# Altium integrated library Analog Devices Clock Generation and Distribution.IntLib: 120 symbols (part 18 of 18)
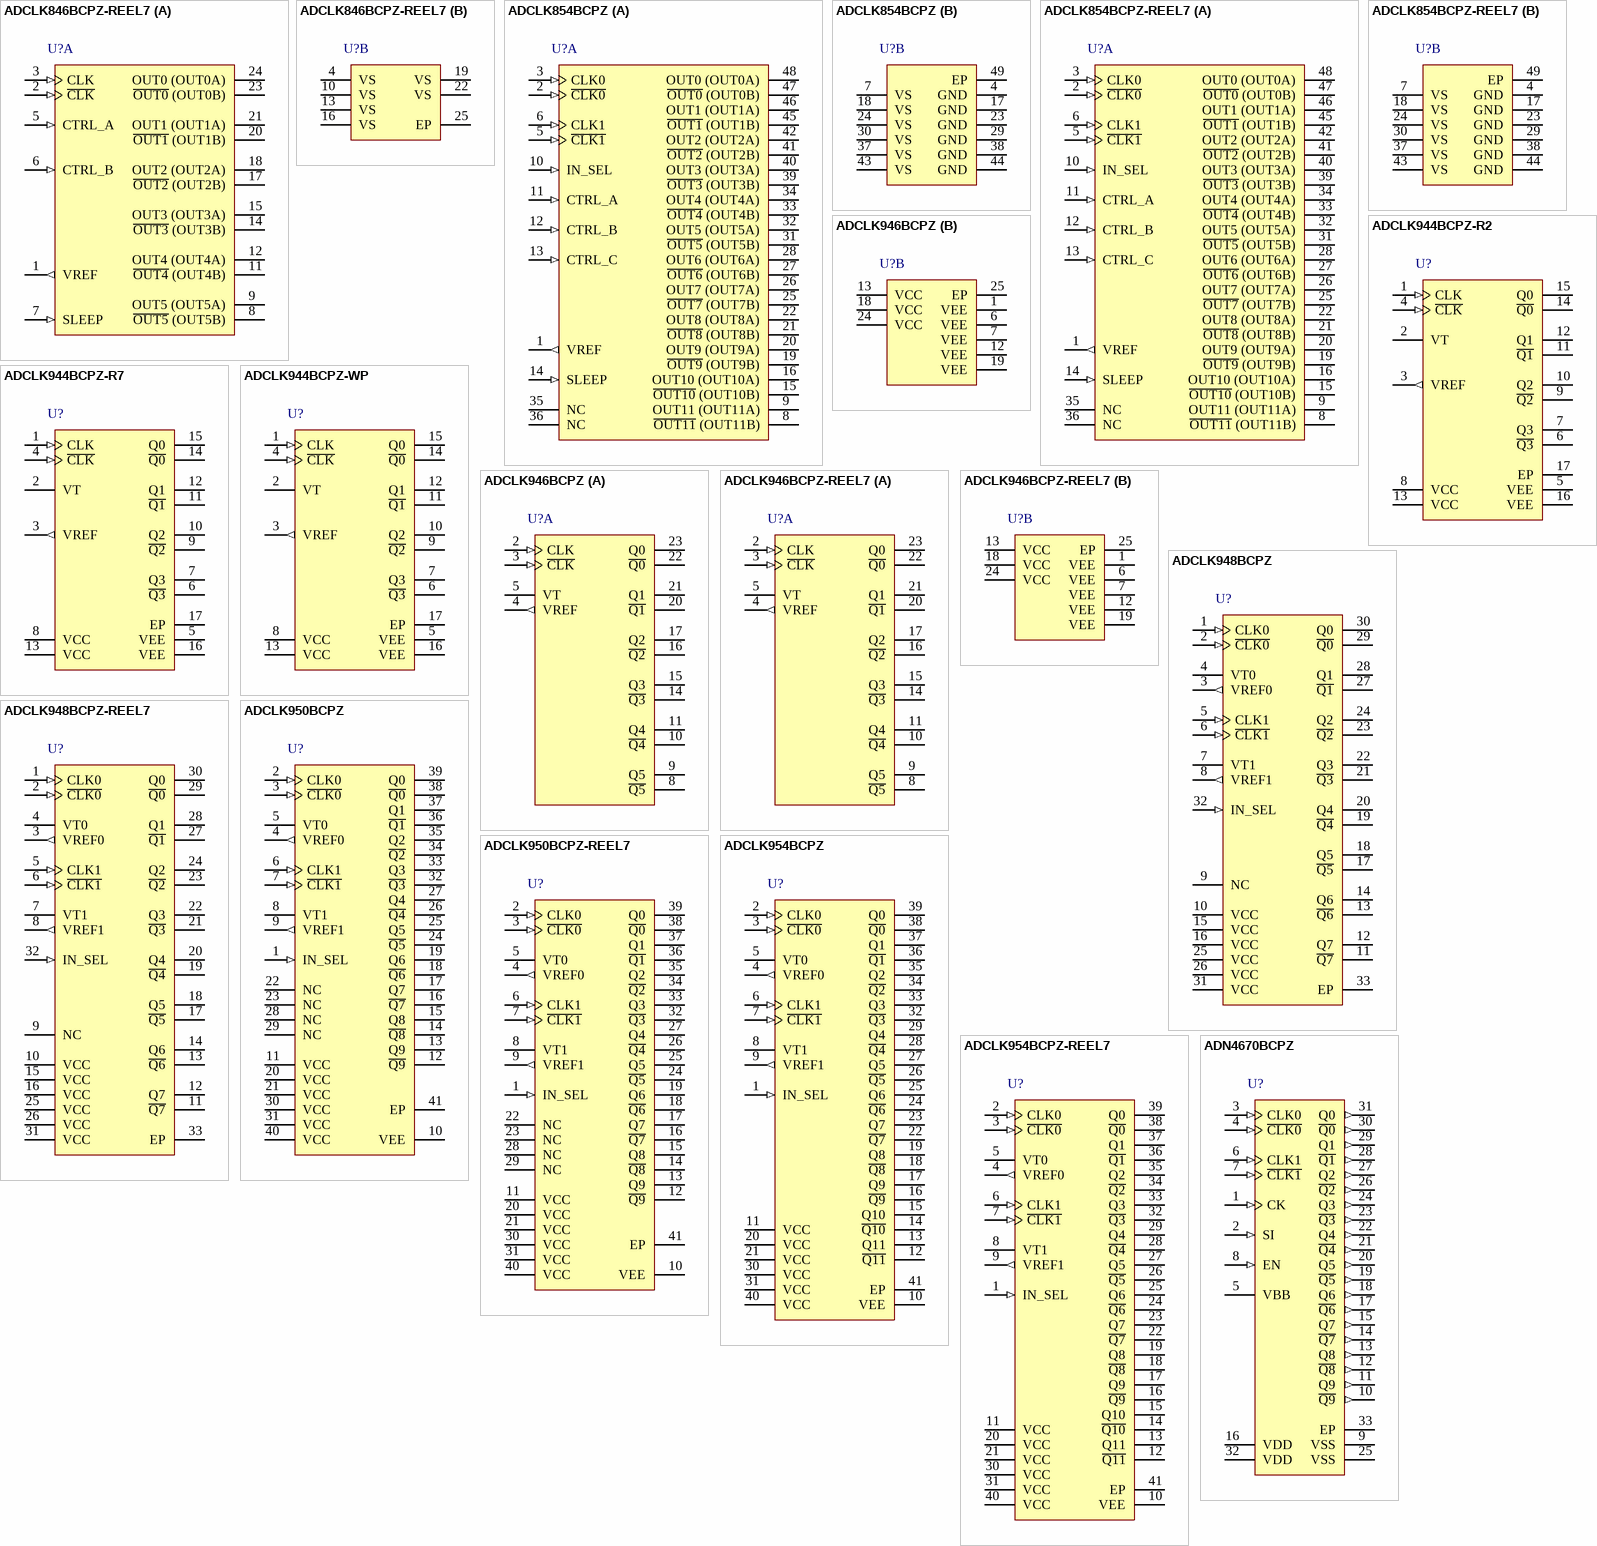
[diagram p29: symbols ADCLK846BCPZ-REEL7 to ADN4670BCPZ]

## ADCLK948BCPZ-REEL7
designator U?
2 Selectable Inputs, 8 LVPECL Outputs SiGe Clock Fanout Buffer, 3.3 V Supply, Industrial, 32-pin QFN (CP-32-8), Reel; Manufacturer: Analog Devices; PartNumber: ADCLK948BCPZ-REEL7; # of Inputs: 2; # of Outputs: 8; Supply Voltage (V): 3.3; I/O Interface: Pin Select; Max f-out: 4.8 GHz; DatasheetVersion: Rev. A; PackageVersion: 080306-A, 08/2006; PackageReference: CP-32-8; PackageDescription: 32-Pin Lead Frame Chip Scale Package, Body 5 x 5 mm, Pitch 0.5 mm; Supplier 1: Digi-Key; Supplier Part Number 1: ADCLK948BCPZ-REEL7-ND; Supplier 2: Newark; Supplier Part Number 2: 26R2412; Supplier 3: Mouser; Supplier Part Number 3: 584-ADCLK948BCPZR7; Output Logic: LVPECL; Packing: Reel; Mounting Technology: Surface Mount; Code_JEDEC: MO-220-VHHD-2; ComponentLink1Description: Manufacturer URL; ComponentLink1URL: http://www.analog.com/en/index.html; ComponentLink2Description: Datasheet; ComponentLink2URL: http://www.analog.com/static/imported-files/data_sheets/ADCLK948.pdf; ComponentLink3Description: Package Specification; ComponentLink3URL: http://www.analog.com/static/imported-files/packages/3743763361381667927CP_32_8.pdf; ComponentLink4Description: Product URL; ComponentLink4URL: http://www.analog.com/en/clock-and-timing/clock-generation-and-distribution/adclk948/products/product.html; ComponentLink5Description: Reference Circuit; ComponentLink5URL: http://www.analog.com/en/clock-and-timing/clock-generation-and-distribution/adclk948/products/product.html#product-recommendations
footprint ADI-CP-32-8_N (QFN, 32-Leads, Body 5x5mm, Pitch 0.5mm, Thermal Pad 2.7x2.7mm, IPC Medium Density)
footprint ADI-CP-32-8_L (QFN, 32-Leads, Body 5x5mm, Pitch 0.5mm, Thermal Pad 2.7x2.7mm, IPC High Density)
footprint ADI-CP-32-8_M (QFN, 32-Leads, Body 5x5mm, Pitch 0.5mm, Thermal Pad 2.7x2.7mm, IPC Low Density)
pins: 1 CLK0 (in) "Differential Input (Positive) 0.", 2 ~{CLK0} (in) "Differential Input (Negative) 0.", 3 VREF0 (out) "Reference Voltage. Reference voltage for biasing ac-coupled CLK0 and C\L\K\0\ inputs.", 4 VT0 "Center Tap. Center tap of a 100  ohm input resistor for CLK0 and C\L\K\0\ inputs.", 5 CLK1 (in) "Differential Input (Positive) 1.", 6 ~{CLK1} (in) "Differential Input (Negative) 1.", 7 VT1 "Center Tap. Center tap of a 100  ohm input resistor for CLK1 and C\L\K\1\ inputs.", 8 VREF1 (out) "Reference Voltage. Reference voltage for biasing ac-coupled CLK1 and C\L\K\1\ inputs.", 9 NC "No Connection.", 10 VCC (power) "Positive Supply Pin.", 11 ~{Q7} (oe) "Differential LVPECL Outputs.", 12 Q7 (oe) "Differential LVPECL Outputs.", 13 ~{Q6} (oe) "Differential LVPECL Outputs.", 14 Q6 (oe) "Differential LVPECL Outputs.", 15 VCC (power) "Positive Supply Pin.", 16 VCC (power) "Positive Supply Pin.", 17 ~{Q5} (oe) "Differential LVPECL Outputs.", 18 Q5 (oe) "Differential LVPECL Outputs.", 19 ~{Q4} (oe) "Differential LVPECL Outputs.", 20 Q4 (oe) "Differential LVPECL Outputs.", 21 ~{Q3} (oe) "Differential LVPECL Outputs.", 22 Q3 (oe) "Differential LVPECL Outputs.", 23 ~{Q2} (oe) "Differential LVPECL Outputs.", 24 Q2 (oe) "Differential LVPECL Outputs.", 25 VCC (power) "Positive Supply Pin.", 26 VCC (power) "Positive Supply Pin.", 27 ~{Q1} (oe) "Differential LVPECL Outputs.", 28 Q1 (oe) "Differential LVPECL Outputs.", 29 ~{Q0} (oe) "Differential LVPECL Outputs.", 30 Q0 (oe) "Differential LVPECL Outputs.", 31 VCC (power) "Positive Supply Pin.", 32 IN_SEL (in) "Input Select. Logic 0 selects CLK0 and C\L\K\0\ inputs. Logic 1 selects CLK1 and C\L\K\1\ inputs.", 33 EP (power) "The exposed pad (EPAD) must be connected to VEE."

## ADCLK950BCPZ
designator U?
2 Selectable Inputs, 10 LVPECL Outputs, SiGe Clock Fanout Buffer, 3.3 V Supply, Industrial, 40-pin QFN (CP-40-8), Tray; Manufacturer: Analog Devices; PartNumber: ADCLK950BCPZ; # of Inputs: 2; # of Outputs: 10; Supply Voltage (V): 3.3; I/O Interface: Pin Select; Max f-out: 4.8 GHz; DatasheetVersion: Rev. A; PackageVersion: 082708-A, 08/2008; PackageReference: CP-40-8; PackageDescription: 40-Pin Lead Frame Chip Scale Package, Body 6 x 6 mm, Pitch 0.5 mm; Supplier 1: Digi-Key; Supplier Part Number 1: ADCLK950BCPZ-ND; Supplier 2: Farnell; Supplier Part Number 2: 1771945; Supplier 3: Newark; Supplier Part Number 3: 26R2414; Supplier 4: Mouser; Supplier Part Number 4: 584-ADCLK950BCPZ; Output Logic: LVPECL; Packing: Tray; Mounting Technology: Surface Mount; Code_JEDEC: MO-220-VJJD-2; ComponentLink1Description: Manufacturer URL; ComponentLink1URL: http://www.analog.com/en/index.html; ComponentLink2Description: Datasheet; ComponentLink2URL: http://www.analog.com/static/imported-files/data_sheets/ADCLK950.pdf; ComponentLink3Description: Package Specification; ComponentLink3URL: http:/www.analog.com/static/imported-files/packages/PKG_PDF/LFCSP(CP)/CP_40_8.pdf; ComponentLink4Description: Product URL; ComponentLink4URL: http://www.analog.com/en/clock-and-timing/clock-generation-and-distribution/adclk950/products/product.html
footprint ADI-CP-40-8_N (QFN, 40-Leads, Body 6x6mm, Pitch 0.5mm, Thermal Pad 2.9x2.9mm, IPC Medium Density)
footprint ADI-CP-40-8_L (QFN, 40-Leads, Body 6x6mm, Pitch 0.5mm, Thermal Pad 2.9x2.9mm, IPC High Density)
footprint ADI-CP-40-8_M (QFN, 40-Leads, Body 6x6mm, Pitch 0.5mm, Thermal Pad 2.9x2.9mm, IPC Low Density)
pins: 1 IN_SEL (in) "Input Select. Logic 0 selects CLK0 and C\L\K\0\ inputs. Logic 1 selects CLK1 and C\L\K\1\ inputs.", 2 CLK0 (in) "Differential Input (Positive) 0.", 3 ~{CLK0} (in) "Differential Input (Negative) 0.", 4 VREF0 (out) "Reference Voltage. Reference voltage for biasing ac-coupled CLK0 and C\L\K\0\ inputs.", 5 VT0 "Center Tap. Center tap of a 100  ohm input resistor for CLK0 and C\L\K\0\ inputs.", 6 CLK1 (in) "Differential Input (Positive) 1.", 7 ~{CLK1} (in) "Differential Input (Negative) 1.", 8 VT1 "Center Tap. Center tap of a 100  ohm input resistor for CLK1 and C\L\K\1\ inputs.", 9 VREF1 (out) "Reference Voltage. Reference voltage for biasing ac-coupled CLK1 and C\L\K\1\ inputs.", 10 VEE (power) "Negative Supply Pin.", 11 VCC (power) "Positive Supply Pin.", 12 ~{Q9} (oe) "Differential LVPECL Outputs.", 13 Q9 (oe) "Differential LVPECL Outputs.", 14 ~{Q8} (oe) "Differential LVPECL Outputs.", 15 Q8 (oe) "Differential LVPECL Outputs.", 16 ~{Q7} (oe) "Differential LVPECL Outputs.", 17 Q7 (oe) "Differential LVPECL Outputs.", 18 ~{Q6} (oe) "Differential LVPECL Outputs.", 19 Q6 (oe) "Differential LVPECL Outputs.", 20 VCC (power) "Positive Supply Pin.", 21 VCC (power) "Positive Supply Pin.", 22 NC "No Connection", 23 NC "No Connection", 24 ~{Q5} (oe) "Differential LVPECL Outputs.", 25 Q5 (oe) "Differential LVPECL Outputs.", 26 ~{Q4} (oe) "Differential LVPECL Outputs.", 27 Q4 (oe) "Differential LVPECL Outputs.", 28 NC "No Connection", 29 NC "No Connection", 30 VCC (power) "Positive Supply Pin.", 31 VCC (power) "Positive Supply Pin.", 32 ~{Q3} (oe) "Differential LVPECL Outputs.", 33 Q3 (oe) "Differential LVPECL Outputs.", 34 ~{Q2} (oe) "Differential LVPECL Outputs.", 35 Q2 (oe) "Differential LVPECL Outputs.", 36 ~{Q1} (oe) "Differential LVPECL Outputs.", 37 Q1 (oe) "Differential LVPECL Outputs.", 38 ~{Q0} (oe) "Differential LVPECL Outputs.", 39 Q0 (oe) "Differential LVPECL Outputs.", 40 VCC (power) "Positive Supply Pin.", 41 EP (power) "Exposed pad (EPAD) must be connected to VEE."

## ADCLK950BCPZ-REEL7
designator U?
2 Selectable Inputs, 10 LVPECL Outputs, SiGe Clock Fanout Buffer, 3.3 V Supply, Industrial, 40-pin QFN (CP-40-8), Reel; Manufacturer: Analog Devices; PartNumber: ADCLK950BCPZ-REEL7; # of Inputs: 2; # of Outputs: 10; Supply Voltage (V): 3.3; I/O Interface: Pin Select; Max f-out: 4.8 GHz; DatasheetVersion: Rev. A; PackageVersion: 082708-A, 08/2008; PackageReference: CP-40-8; PackageDescription: 40-Pin Lead Frame Chip Scale Package, Body 6 x 6 mm, Pitch 0.5 mm; Supplier 1: Digi-Key; Supplier Part Number 1: ADCLK950BCPZ-REEL7-ND; Supplier 2: Mouser; Supplier Part Number 2: 584-ADCLK950BCPZR7; Output Logic: LVPECL; Packing: Reel; Mounting Technology: Surface Mount; Code_JEDEC: MO-220-VJJD-2; ComponentLink1Description: Manufacturer URL; ComponentLink1URL: http://www.analog.com/en/index.html; ComponentLink2Description: Datasheet; ComponentLink2URL: http://www.analog.com/static/imported-files/data_sheets/ADCLK950.pdf; ComponentLink3Description: Package Specification; ComponentLink3URL: http:/www.analog.com/static/imported-files/packages/PKG_PDF/LFCSP(CP)/CP_40_8.pdf; ComponentLink4Description: Product URL; ComponentLink4URL: http://www.analog.com/en/clock-and-timing/clock-generation-and-distribution/adclk950/products/product.html
footprint ADI-CP-40-8_N (QFN, 40-Leads, Body 6x6mm, Pitch 0.5mm, Thermal Pad 2.9x2.9mm, IPC Medium Density)
footprint ADI-CP-40-8_L (QFN, 40-Leads, Body 6x6mm, Pitch 0.5mm, Thermal Pad 2.9x2.9mm, IPC High Density)
footprint ADI-CP-40-8_M (QFN, 40-Leads, Body 6x6mm, Pitch 0.5mm, Thermal Pad 2.9x2.9mm, IPC Low Density)
pins: 1 IN_SEL (in) "Input Select. Logic 0 selects CLK0 and C\L\K\0\ inputs. Logic 1 selects CLK1 and C\L\K\1\ inputs.", 2 CLK0 (in) "Differential Input (Positive) 0.", 3 ~{CLK0} (in) "Differential Input (Negative) 0.", 4 VREF0 (out) "Reference Voltage. Reference voltage for biasing ac-coupled CLK0 and C\L\K\0\ inputs.", 5 VT0 "Center Tap. Center tap of a 100  ohm input resistor for CLK0 and C\L\K\0\ inputs.", 6 CLK1 (in) "Differential Input (Positive) 1.", 7 ~{CLK1} (in) "Differential Input (Negative) 1.", 8 VT1 "Center Tap. Center tap of a 100  ohm input resistor for CLK1 and C\L\K\1\ inputs.", 9 VREF1 (out) "Reference Voltage. Reference voltage for biasing ac-coupled CLK1 and C\L\K\1\ inputs.", 10 VEE (power) "Negative Supply Pin.", 11 VCC (power) "Positive Supply Pin.", 12 ~{Q9} (oe) "Differential LVPECL Outputs.", 13 Q9 (oe) "Differential LVPECL Outputs.", 14 ~{Q8} (oe) "Differential LVPECL Outputs.", 15 Q8 (oe) "Differential LVPECL Outputs.", 16 ~{Q7} (oe) "Differential LVPECL Outputs.", 17 Q7 (oe) "Differential LVPECL Outputs.", 18 ~{Q6} (oe) "Differential LVPECL Outputs.", 19 Q6 (oe) "Differential LVPECL Outputs.", 20 VCC (power) "Positive Supply Pin.", 21 VCC (power) "Positive Supply Pin.", 22 NC "No Connection", 23 NC "No Connection", 24 ~{Q5} (oe) "Differential LVPECL Outputs.", 25 Q5 (oe) "Differential LVPECL Outputs.", 26 ~{Q4} (oe) "Differential LVPECL Outputs.", 27 Q4 (oe) "Differential LVPECL Outputs.", 28 NC "No Connection", 29 NC "No Connection", 30 VCC (power) "Positive Supply Pin.", 31 VCC (power) "Positive Supply Pin.", 32 ~{Q3} (oe) "Differential LVPECL Outputs.", 33 Q3 (oe) "Differential LVPECL Outputs.", 34 ~{Q2} (oe) "Differential LVPECL Outputs.", 35 Q2 (oe) "Differential LVPECL Outputs.", 36 ~{Q1} (oe) "Differential LVPECL Outputs.", 37 Q1 (oe) "Differential LVPECL Outputs.", 38 ~{Q0} (oe) "Differential LVPECL Outputs.", 39 Q0 (oe) "Differential LVPECL Outputs.", 40 VCC (power) "Positive Supply Pin.", 41 EP (power) "Exposed pad (EPAD) must be connected to VEE."

## ADCLK954BCPZ
designator U?
2 Selectable Inputs, 12 LVPECL Outputs, SiGe Clock Fanout Buffer, 3.3 V Supply, Industrial, 40-pin QFN (CP-40-8), Tray; Manufacturer: Analog Devices; PartNumber: ADCLK954BCPZ; # of Inputs: 2; # of Outputs: 12; Supply Voltage (V): 3.3; I/O Interface: Pin Select; Max f-out: 4.8 GHz; On-Chip VCO or DCO: No; DatasheetVersion: Rev. B; PackageVersion: 082708-A, 08/2008; PackageReference: CP-40-8; PackageDescription: 40-Pin Lead Frame Chip Scale Package, Body 6 x 6 mm, Pitch 0.5 mm; Supplier 1: Digi-Key; Supplier Part Number 1: ADCLK954BCPZ-ND; Supplier 2: Newark; Supplier Part Number 2: 05R6527; Supplier 3: Mouser; Supplier Part Number 3: 584-ADCLK954BCPZ; Output Logic: LVPECL; Packing: Tray; Mounting Technology: Surface Mount; Code_JEDEC: MO-220-VJJD-2; ComponentLink1Description: Manufacturer URL; ComponentLink1URL: http://www.analog.com/en/index.html; ComponentLink2Description: Datasheet; ComponentLink2URL: http://www.analog.com/static/imported-files/data_sheets/ADCLK954.pdf; ComponentLink3Description: Package Specification; ComponentLink3URL: http:/www.analog.com/static/imported-files/packages/PKG_PDF/LFCSP(CP)/CP_40_8.pdf; ComponentLink4Description: Product URL; ComponentLink4URL: http://www.analog.com/en/clock-and-timing/clock-generation-and-distribution/adclk954/products/product.html
footprint ADI-CP-40-8_N (QFN, 40-Leads, Body 6x6mm, Pitch 0.5mm, Thermal Pad 2.9x2.9mm, IPC Medium Density)
footprint ADI-CP-40-8_L (QFN, 40-Leads, Body 6x6mm, Pitch 0.5mm, Thermal Pad 2.9x2.9mm, IPC High Density)
footprint ADI-CP-40-8_M (QFN, 40-Leads, Body 6x6mm, Pitch 0.5mm, Thermal Pad 2.9x2.9mm, IPC Low Density)
pins: 1 IN_SEL (in) "Input Select. Logic 0 selects CLK0 and C\L\K\0\ inputs. Logic 1 selects CLK1 and C\L\K\1\ inputs.", 2 CLK0 (in) "Differential Input (Positive) 0", 3 ~{CLK0} (in) "Differential Input (Negative) 0", 4 VREF0 (out) "Reference Voltage. Reference voltage for biasing ac-coupled CLK0 and C\L\K\0\ inputs", 5 VT0 "Center Tap. Center tap of a 100  ohm input resistor for CLK0 and CLK0 inputs.", 6 CLK1 (in) "Differential Input (Positive) 1", 7 ~{CLK1} (in) "Differential Input (Negative) 1", 8 VT1 "Center Tap. Center tap of a 100  ohm input resistor for CLK1 and C\L\K\1\ inputs", 9 VREF1 (out) "Reference Voltage. Reference voltage for biasing ac-coupled CLK1 and C\L\K\1\ inputs", 10 VEE (power) "Negative Supply Pin", 11 VCC (power) "Positive Supply Pin", 12 ~{Q11} (oe) "Differential LVPECL Outputs", 13 Q11 (oe) "Differential LVPECL Outputs", 14 ~{Q10} (oe) "Differential LVPECL Outputs", 15 Q10 (oe) "Differential LVPECL Outputs", 16 ~{Q9} (oe) "Differential LVPECL Outputs", 17 Q9 (oe) "Differential LVPECL Outputs", 18 ~{Q8} (oe) "Differential LVPECL Outputs", 19 Q8 (oe) "Differential LVPECL Outputs", 20 VCC (power) "Positive Supply Pin", 21 VCC (power) "Positive Supply Pin", 22 ~{Q7} (oe) "Differential LVPECL Outputs", 23 Q7 (oe) "Differential LVPECL Outputs", 24 ~{Q6} (oe) "Differential LVPECL Outputs", 25 Q6 (oe) "Differential LVPECL Outputs", 26 ~{Q5} (oe) "Differential LVPECL Outputs", 27 Q5 (oe) "Differential LVPECL Outputs", 28 ~{Q4} (oe) "Differential LVPECL Outputs", 29 Q4 (oe) "Differential LVPECL Outputs", 30 VCC (power) "Positive Supply Pin", 31 VCC (power) "Positive Supply Pin", 32 ~{Q3} (oe) "Differential LVPECL Outputs", 33 Q3 (oe) "Differential LVPECL Outputs", 34 ~{Q2} (oe) "Differential LVPECL Outputs", 35 Q2 (oe) "Differential LVPECL Outputs", 36 ~{Q1} (oe) "Differential LVPECL Outputs", 37 Q1 (oe) "Differential LVPECL Outputs", 38 ~{Q0} (oe) "Differential LVPECL Outputs", 39 Q0 (oe) "Differential LVPECL Outputs", 40 VCC (power) "Positive Supply Pin", 41 EP (power) "Exposed pad (EPAD) must be connected to VEE"

## ADCLK954BCPZ-REEL7
designator U?
2 Selectable Inputs, 12 LVPECL Outputs, SiGe Clock Fanout Buffer, 3.3 V Supply, Industrial, 40-pin QFN (CP-40-8), Reel; Manufacturer: Analog Devices; PartNumber: ADCLK954BCPZ-REEL7; # of Inputs: 2; # of Outputs: 12; Supply Voltage (V): 3.3; I/O Interface: Pin Select; Max f-out: 4.8 GHz; On-Chip VCO or DCO: No; DatasheetVersion: Rev. B; PackageVersion: 082708-A, 08/2008; PackageReference: CP-40-8; PackageDescription: 40-Pin Lead Frame Chip Scale Package, Body 6 x 6 mm, Pitch 0.5 mm; Supplier 1: Digi-Key; Supplier Part Number 1: ADCLK954BCPZ-REEL7-ND; Supplier 2: Mouser; Supplier Part Number 2: 584-ADCLK954BCPZR7; Output Logic: LVPECL; Packing: Reel; Mounting Technology: Surface Mount; Code_JEDEC: MO-220-VJJD-2; ComponentLink1Description: Manufacturer URL; ComponentLink1URL: http://www.analog.com/en/index.html; ComponentLink2Description: Datasheet; ComponentLink2URL: http://www.analog.com/static/imported-files/data_sheets/ADCLK954.pdf; ComponentLink3Description: Package Specification; ComponentLink3URL: http:/www.analog.com/static/imported-files/packages/PKG_PDF/LFCSP(CP)/CP_40_8.pdf; ComponentLink4Description: Product URL; ComponentLink4URL: http://www.analog.com/en/clock-and-timing/clock-generation-and-distribution/adclk954/products/product.html
footprint ADI-CP-40-8_N (QFN, 40-Leads, Body 6x6mm, Pitch 0.5mm, Thermal Pad 2.9x2.9mm, IPC Medium Density)
footprint ADI-CP-40-8_L (QFN, 40-Leads, Body 6x6mm, Pitch 0.5mm, Thermal Pad 2.9x2.9mm, IPC High Density)
footprint ADI-CP-40-8_M (QFN, 40-Leads, Body 6x6mm, Pitch 0.5mm, Thermal Pad 2.9x2.9mm, IPC Low Density)
pins: 1 IN_SEL (in) "Input Select. Logic 0 selects CLK0 and C\L\K\0\ inputs. Logic 1 selects CLK1 and C\L\K\1\ inputs.", 2 CLK0 (in) "Differential Input (Positive) 0", 3 ~{CLK0} (in) "Differential Input (Negative) 0", 4 VREF0 (out) "Reference Voltage. Reference voltage for biasing ac-coupled CLK0 and C\L\K\0\ inputs", 5 VT0 "Center Tap. Center tap of a 100  ohm input resistor for CLK0 and CLK0 inputs.", 6 CLK1 (in) "Differential Input (Positive) 1", 7 ~{CLK1} (in) "Differential Input (Negative) 1", 8 VT1 "Center Tap. Center tap of a 100  ohm input resistor for CLK1 and C\L\K\1\ inputs", 9 VREF1 (out) "Reference Voltage. Reference voltage for biasing ac-coupled CLK1 and C\L\K\1\ inputs", 10 VEE (power) "Negative Supply Pin", 11 VCC (power) "Positive Supply Pin", 12 ~{Q11} (oe) "Differential LVPECL Outputs", 13 Q11 (oe) "Differential LVPECL Outputs", 14 ~{Q10} (oe) "Differential LVPECL Outputs", 15 Q10 (oe) "Differential LVPECL Outputs", 16 ~{Q9} (oe) "Differential LVPECL Outputs", 17 Q9 (oe) "Differential LVPECL Outputs", 18 ~{Q8} (oe) "Differential LVPECL Outputs", 19 Q8 (oe) "Differential LVPECL Outputs", 20 VCC (power) "Positive Supply Pin", 21 VCC (power) "Positive Supply Pin", 22 ~{Q7} (oe) "Differential LVPECL Outputs", 23 Q7 (oe) "Differential LVPECL Outputs", 24 ~{Q6} (oe) "Differential LVPECL Outputs", 25 Q6 (oe) "Differential LVPECL Outputs", 26 ~{Q5} (oe) "Differential LVPECL Outputs", 27 Q5 (oe) "Differential LVPECL Outputs", 28 ~{Q4} (oe) "Differential LVPECL Outputs", 29 Q4 (oe) "Differential LVPECL Outputs", 30 VCC (power) "Positive Supply Pin", 31 VCC (power) "Positive Supply Pin", 32 ~{Q3} (oe) "Differential LVPECL Outputs", 33 Q3 (oe) "Differential LVPECL Outputs", 34 ~{Q2} (oe) "Differential LVPECL Outputs", 35 Q2 (oe) "Differential LVPECL Outputs", 36 ~{Q1} (oe) "Differential LVPECL Outputs", 37 Q1 (oe) "Differential LVPECL Outputs", 38 ~{Q0} (oe) "Differential LVPECL Outputs", 39 Q0 (oe) "Differential LVPECL Outputs", 40 VCC (power) "Positive Supply Pin", 41 EP (power) "Exposed pad (EPAD) must be connected to VEE"

## ADN4670BCPZ
designator U?
Programmable Low Voltage 1:10 LVDS Clock Driver, 2.625 V Supply, Industrial, 32-pin QFN (CP-32-7), Tray; Manufacturer: Analog Devices; PartNumber: ADN4670BCPZ; # of Inputs: 2; # of Outputs: 10; Supply Voltage (V): 2.625; I/O Interface: Serial; Max f-out: 1.1 GHz; On-Chip VCO or DCO: No; PackageVersion: 112408-A, 11/2008; PackageReference: CP-32-7; PackageDescription: 32-Pin Lead Frame Chip Scale Package, Body 5 x 5 mm, Pitch 0.5 mm; Supplier 1: Digi-Key; Supplier Part Number 1: ADN4670BCPZ-ND; Supplier 2: Newark; Supplier Part Number 2: 76R7563; Supplier 3: Mouser; Supplier Part Number 3: 584-ADN4670BCPZ; Output Logic: LVDS; Packing: Tray; Mounting Technology: Surface Mount; Code_JEDEC: MO-220-WHHD; ComponentLink1Description: Manufacturer URL; ComponentLink1URL: http://www.analog.com/en/index.html; ComponentLink2Description: Datasheet; ComponentLink2URL: http://www.analog.com/static/imported-files/data_sheets/ADN4670.pdf; ComponentLink3Description: Package Specification; ComponentLink3URL: http://www.analog.com/static/imported-files/packages/CP_32_7.pdf; ComponentLink4Description: Product URL; ComponentLink4URL: http://www.analog.com/en/clock-and-timing/clock-generation-and-distribution/adn4670/products/product.html
footprint ADI-CP-32-7_N (QFN, 32-Leads, Body 5x5mm, Pitch 0.5mm, Thermal Pad 3.1x3.1mm, IPC Medium Density)
footprint ADI-CP-32-7_L (QFN, 32-Leads, Body 5x5mm, Pitch 0.5mm, Thermal Pad 3.1x3.1mm, IPC High Density)
footprint ADI-CP-32-7_M (QFN, 32-Leads, Body 5x5mm, Pitch 0.5mm, Thermal Pad 3.1x3.1mm, IPC Low Density)
pins: 1 CK (in) "Programming Clock. Programming data is clocked in on a low-to-high transition at this input. If left open-circuit, it is pulled high by a 120 K ohm resistor", 2 SI (in) "Serial Data Input. This is the input for programming data. If left open-circuit, it is pulled low by a 120 K ohm resistor", 3 CLK0 (in) "Noninverting Differential Clock Input 0", 4 ~{CLK0} (in) "Inverting Differential Clock Input 0", 5 VBB (power) "Reference Voltage Output", 6 CLK1 (in) "Noninverting Differential Clock Input 1", 7 ~{CLK1} (in) "Inverting Differential Clock Input 1", 8 EN (in) "Active-High Enable Input. When this input is high, programming is enabled. If left open-circuit, it is pulled low by a 120 K ohm resistor", 9 VSS (power) "Device Ground", 10 ~{Q9} (out) "Inverted Clock Output. When the differential input voltage is between CLKx and C\L\K\x > 100 mV, this output sinks current. When the differential input voltage is between CLKx and C\L\K\x < -100 mV, this output sources current", 11 Q9 (out) "Noninverted Clock Output. When the differential input voltage is between CLKx and C\L\K\x > 100 mV, this output sources current. When the differential input voltage is between CLKx and C\L\K\x < -100 mV,this output sinks current", 12 ~{Q8} (out) "Inverted Clock Output. When the differential input voltage is between CLKx and C\L\K\x > 100 mV, this output sinks current. When the differential input voltage is between CLKx and C\L\K\x < -100 mV, this output sources current", 13 Q8 (out) "Noninverted Clock Output. When the differential input voltage is between CLKx and C\L\K\x > 100 mV, this output sources current. When the differential input voltage is between CLKx and C\L\K\x < -100 mV,this output sinks current", 14 ~{Q7} (out) "Inverted Clock Output. When the differential input voltage is between CLKx and C\L\K\x > 100 mV, this output sinks current. When the differential input voltage is between CLKx and C\L\K\x < -100 mV, this output sources current", 15 Q7 (out) "Noninverted Clock Output. When the differential input voltage is between CLKx and C\L\K\x > 100 mV, this output sources current. When the differential input voltage is between CLKx and C\L\K\x < -100 mV,this output sinks current", 16 VDD (power) "Power Supply Input. This part can be operated from 2.375 V to 2.625 V", 17 ~{Q6} (out) "Inverted Clock Output. When the differential input voltage is between CLKx and C\L\K\x > 100 mV, this output sinks current. When the differential input voltage is between CLKx and C\L\K\x < -100 mV, this output sources current", 18 Q6 (out) "Noninverted Clock Output. When the differential input voltage is between CLKx and C\L\K\x > 100 mV, this output sources current. When the differential input voltage is between CLKx and C\L\K\x < -100 mV,this output sinks current", 19 ~{Q5} (out) "Inverted Clock Output. When the differential input voltage is between CLKx and C\L\K\x > 100 mV, this output sinks current. When the differential input voltage is between CLKx and C\L\K\x < -100 mV, this output sources current", 20 Q5 (out) "Noninverted Clock Output. When the differential input voltage is between CLKx and C\L\K\x > 100 mV, this output sources current. When the differential input voltage is between CLKx and C\L\K\x < -100 mV,this output sinks current", 21 ~{Q4} (out) "Inverted Clock Output. When the differential input voltage is between CLKx and C\L\K\x > 100 mV, this output sinks current. When the differential input voltage is between CLKx and C\L\K\x < -100 mV, this output sources current", 22 Q4 (out) "Noninverted Clock Output. When the differential input voltage is between CLKx and C\L\K\x > 100 mV, this output sources current. When the differential input voltage is between CLKx and C\L\K\x < -100 mV,this output sinks current", 23 ~{Q3} (out) "Inverted Clock Output. When the differential input voltage is between CLKx and C\L\K\x > 100 mV, this output sinks current. When the differential input voltage is between CLKx and C\L\K\x < -100 mV, this output sources current", 24 Q3 (out) "Noninverted Clock Output. When the differential input voltage is between CLKx and C\L\K\x > 100 mV, this output sources current. When the differential input voltage is between CLKx and C\L\K\x < -100 mV,this output sinks current", 25 VSS (power) "Device Ground", 26 ~{Q2} (out) "Inverted Clock Output. When the differential input voltage is between CLKx and C\L\K\x > 100 mV, this output sinks current. When the differential input voltage is between CLKx and C\L\K\x < -100 mV, this output sources current", 27 Q2 (out) "Noninverted Clock Output. When the differential input voltage is between CLKx and C\L\K\x > 100 mV, this output sources current. When the differential input voltage is between CLKx and C\L\K\x < -100 mV,this output sinks current", 28 ~{Q1} (out) "Inverted Clock Output. When the differential input voltage is between CLKx and C\L\K\x > 100 mV, this output sinks current. When the differential input voltage is between CLKx and C\L\K\x < -100 mV, this output sources current", 29 Q1 (out) "Noninverted Clock Output. When the differential input voltage is between CLKx and C\L\K\x > 100 mV, this output sources current. When the differential input voltage is between CLKx and C\L\K\x < -100 mV,this output sinks current", 30 ~{Q0} (out) "Inverted Clock Output. When the differential input voltage is between CLKx and C\L\K\x > 100 mV, this output sinks current. When the differential input voltage is between CLKx and C\L\K\x < -100 mV, this output sources current", 31 Q0 (out) "Noninverted Clock Output. When the differential input voltage is between CLKx and C\L\K\x > 100 mV, this output sources current. When the differential input voltage is between CLKx and C\L\K\x < -100 mV,this output sinks current", 32 VDD (power) "Power Supply Input. This part can be operated from 2.375 V to 2.625 V", 33 EP (power) "Exposed Pad"

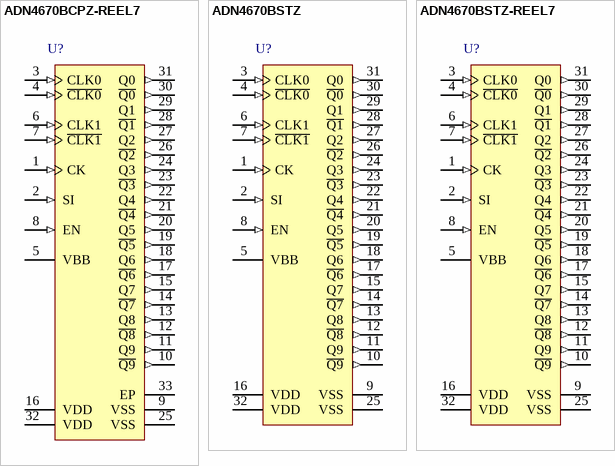
[diagram p12: symbols ADN4670BCPZ-REEL7 to ADN4670BSTZ-REEL7]

## ADN4670BCPZ-REEL7
designator U?
Programmable Low Voltage 1:10 LVDS Clock Driver, 2.625 V Supply, Industrial, 32-pin QFN (CP-32-7), Reel; Manufacturer: Analog Devices; PartNumber: ADN4670BCPZ-REEL7; # of Inputs: 2; # of Outputs: 10; Supply Voltage (V): 2.625; I/O Interface: Serial; Max f-out: 1.1 GHz; On-Chip VCO or DCO: No; PackageVersion: 112408-A, 11/2008; PackageReference: CP-32-7; PackageDescription: 32-Pin Lead Frame Chip Scale Package, Body 5 x 5 mm, Pitch 0.5 mm; Supplier 1: Digi-Key; Supplier Part Number 1: ADN4670BCPZ-REEL7-ND; Supplier 2: Mouser; Supplier Part Number 2: 584-ADN4670BCPZ-R7; Output Logic: LVDS; Packing: Reel; Mounting Technology: Surface Mount; Code_JEDEC: MO-220-WHHD; ComponentLink1Description: Manufacturer URL; ComponentLink1URL: http://www.analog.com/en/index.html; ComponentLink2Description: Datasheet; ComponentLink2URL: http://www.analog.com/static/imported-files/data_sheets/ADN4670.pdf; ComponentLink3Description: Package Specification; ComponentLink3URL: http://www.analog.com/static/imported-files/packages/CP_32_7.pdf; ComponentLink4Description: Product URL; ComponentLink4URL: http://www.analog.com/en/clock-and-timing/clock-generation-and-distribution/adn4670/products/product.html
footprint ADI-CP-32-7_N (QFN, 32-Leads, Body 5x5mm, Pitch 0.5mm, Thermal Pad 3.1x3.1mm, IPC Medium Density)
footprint ADI-CP-32-7_L (QFN, 32-Leads, Body 5x5mm, Pitch 0.5mm, Thermal Pad 3.1x3.1mm, IPC High Density)
footprint ADI-CP-32-7_M (QFN, 32-Leads, Body 5x5mm, Pitch 0.5mm, Thermal Pad 3.1x3.1mm, IPC Low Density)
pins: 1 CK (in) "Programming Clock. Programming data is clocked in on a low-to-high transition at this input. If left open-circuit, it is pulled high by a 120 K ohm resistor", 2 SI (in) "Serial Data Input. This is the input for programming data. If left open-circuit, it is pulled low by a 120 K ohm resistor", 3 CLK0 (in) "Noninverting Differential Clock Input 0", 4 ~{CLK0} (in) "Inverting Differential Clock Input 0", 5 VBB (power) "Reference Voltage Output", 6 CLK1 (in) "Noninverting Differential Clock Input 1", 7 ~{CLK1} (in) "Inverting Differential Clock Input 1", 8 EN (in) "Active-High Enable Input. When this input is high, programming is enabled. If left open-circuit, it is pulled low by a 120 K ohm resistor", 9 VSS (power) "Device Ground", 10 ~{Q9} (out) "Inverted Clock Output. When the differential input voltage is between CLKx and C\L\K\x > 100 mV, this output sinks current. When the differential input voltage is between CLKx and C\L\K\x < -100 mV, this output sources current", 11 Q9 (out) "Noninverted Clock Output. When the differential input voltage is between CLKx and C\L\K\x > 100 mV, this output sources current. When the differential input voltage is between CLKx and C\L\K\x < -100 mV,this output sinks current", 12 ~{Q8} (out) "Inverted Clock Output. When the differential input voltage is between CLKx and C\L\K\x > 100 mV, this output sinks current. When the differential input voltage is between CLKx and C\L\K\x < -100 mV, this output sources current", 13 Q8 (out) "Noninverted Clock Output. When the differential input voltage is between CLKx and C\L\K\x > 100 mV, this output sources current. When the differential input voltage is between CLKx and C\L\K\x < -100 mV,this output sinks current", 14 ~{Q7} (out) "Inverted Clock Output. When the differential input voltage is between CLKx and C\L\K\x > 100 mV, this output sinks current. When the differential input voltage is between CLKx and C\L\K\x < -100 mV, this output sources current", 15 Q7 (out) "Noninverted Clock Output. When the differential input voltage is between CLKx and C\L\K\x > 100 mV, this output sources current. When the differential input voltage is between CLKx and C\L\K\x < -100 mV,this output sinks current", 16 VDD (power) "Power Supply Input. This part can be operated from 2.375 V to 2.625 V", 17 ~{Q6} (out) "Inverted Clock Output. When the differential input voltage is between CLKx and C\L\K\x > 100 mV, this output sinks current. When the differential input voltage is between CLKx and C\L\K\x < -100 mV, this output sources current", 18 Q6 (out) "Noninverted Clock Output. When the differential input voltage is between CLKx and C\L\K\x > 100 mV, this output sources current. When the differential input voltage is between CLKx and C\L\K\x < -100 mV,this output sinks current", 19 ~{Q5} (out) "Inverted Clock Output. When the differential input voltage is between CLKx and C\L\K\x > 100 mV, this output sinks current. When the differential input voltage is between CLKx and C\L\K\x < -100 mV, this output sources current", 20 Q5 (out) "Noninverted Clock Output. When the differential input voltage is between CLKx and C\L\K\x > 100 mV, this output sources current. When the differential input voltage is between CLKx and C\L\K\x < -100 mV,this output sinks current", 21 ~{Q4} (out) "Inverted Clock Output. When the differential input voltage is between CLKx and C\L\K\x > 100 mV, this output sinks current. When the differential input voltage is between CLKx and C\L\K\x < -100 mV, this output sources current", 22 Q4 (out) "Noninverted Clock Output. When the differential input voltage is between CLKx and C\L\K\x > 100 mV, this output sources current. When the differential input voltage is between CLKx and C\L\K\x < -100 mV,this output sinks current", 23 ~{Q3} (out) "Inverted Clock Output. When the differential input voltage is between CLKx and C\L\K\x > 100 mV, this output sinks current. When the differential input voltage is between CLKx and C\L\K\x < -100 mV, this output sources current", 24 Q3 (out) "Noninverted Clock Output. When the differential input voltage is between CLKx and C\L\K\x > 100 mV, this output sources current. When the differential input voltage is between CLKx and C\L\K\x < -100 mV,this output sinks current", 25 VSS (power) "Device Ground", 26 ~{Q2} (out) "Inverted Clock Output. When the differential input voltage is between CLKx and C\L\K\x > 100 mV, this output sinks current. When the differential input voltage is between CLKx and C\L\K\x < -100 mV, this output sources current", 27 Q2 (out) "Noninverted Clock Output. When the differential input voltage is between CLKx and C\L\K\x > 100 mV, this output sources current. When the differential input voltage is between CLKx and C\L\K\x < -100 mV,this output sinks current", 28 ~{Q1} (out) "Inverted Clock Output. When the differential input voltage is between CLKx and C\L\K\x > 100 mV, this output sinks current. When the differential input voltage is between CLKx and C\L\K\x < -100 mV, this output sources current", 29 Q1 (out) "Noninverted Clock Output. When the differential input voltage is between CLKx and C\L\K\x > 100 mV, this output sources current. When the differential input voltage is between CLKx and C\L\K\x < -100 mV,this output sinks current", 30 ~{Q0} (out) "Inverted Clock Output. When the differential input voltage is between CLKx and C\L\K\x > 100 mV, this output sinks current. When the differential input voltage is between CLKx and C\L\K\x < -100 mV, this output sources current", 31 Q0 (out) "Noninverted Clock Output. When the differential input voltage is between CLKx and C\L\K\x > 100 mV, this output sources current. When the differential input voltage is between CLKx and C\L\K\x < -100 mV,this output sinks current", 32 VDD (power) "Power Supply Input. This part can be operated from 2.375 V to 2.625 V", 33 EP (power) "Exposed Pad"

## ADN4670BSTZ
designator U?
Programmable Low Voltage 1:10 LVDS Clock Driver, 2.625 V Supply, Industrial, 32-pin QFP (ST-32-2), Tray; Manufacturer: Analog Devices; PartNumber: ADN4670BSTZ; # of Inputs: 2; # of Outputs: 10; Supply Voltage (V): 2.625; I/O Interface: Serial; Max f-out: 1.1 GHz; On-Chip VCO or DCO: No; PackageVersion: 01/2012; PackageReference: ST-32-2; PackageDescription: 32-Pin Low Profile Quad Flat Package, Body 7 x 7 mm, Pitch 0.8 mm; Supplier 1: Digi-Key; Supplier Part Number 1: ADN4670BSTZ-ND; Supplier 2: Newark; Supplier Part Number 2: 27W3692; Supplier 3: Mouser; Supplier Part Number 3: 584-ADN4670BSTZ; Output Logic: LVDS; Packing: Tray; Mounting Technology: Surface Mount; Code_JEDEC: MS-026-BBA; ComponentLink1Description: Manufacturer URL; ComponentLink1URL: http://www.analog.com/en/index.html; ComponentLink2Description: Datasheet; ComponentLink2URL: http://www.analog.com/static/imported-files/data_sheets/ADN4670.pdf; ComponentLink3Description: Package Specification; ComponentLink3URL: http://www.analog.com/static/imported-files/data_sheets/ADN4670.pdf; ComponentLink4Description: Product URL; ComponentLink4URL: http://www.analog.com/en/clock-and-timing/clock-generation-and-distribution/adn4670/products/product.html
footprint ADI-ST-32-2_N (QFP, 32-Leads, Body 7x7mm, Pitch 0.8mm, IPC Medium Density)
footprint ADI-ST-32-2_L (QFP, 32-Leads, Body 7x7mm, Pitch 0.8mm, IPC High Density)
footprint ADI-ST-32-2_M (QFP, 32-Leads, Body 7x7mm, Pitch 0.8mm, IPC Low Density)
pins: 1 CK (in) "Programming Clock. Programming data is clocked in on a low-to-high transition at this input. If left  open-circuit, it is pulled high by a 120 k ohm resistor", 2 SI (in) "Serial Data Input. This is the input for programming data. If left open-circuit, it is pulled low by a 120 k ohm  resistor.", 3 CLK0 (in) "Noninverting Differential Clock Input 0.", 4 ~{CLK0} (in) "Inverting Differential Clock Input 0.", 5 VBB (power) "Reference Voltage Output.", 6 CLK1 (in) "Noninverting Differential Clock Input 1.", 7 ~{CLK1} (in) "Inverting Differential Clock Input 1.", 8 EN (in) "Active-High Enable Input. When this input is high, programming is enabled. If left open-circuit, it is  pulled low by a 120 k ohm resistor.", 9 VSS (power) "Device Ground.", 10 ~{Q9} (out) "Inverted Clock Output. When the differential input voltage is between CLKx and C\L\K\x\ > 100 mV, this output sinks current. When the differential input voltage is between CLKx and C\L\K\x\ < -100 mV, this  output sources (See Datasheet)", 11 Q9 (out) "Noninverted Clock Output. When the differential input voltage is between CLKx and C\L\K\x\ > 100 mV, this output sources current. When the differential input voltage is between CLKx and C\L\K\x\ < -100 mV,  this output sinks (See Datasheet)", 12 ~{Q8} (out) "Inverted Clock Output. When the differential input voltage is between CLKx and C\L\K\x\ > 100 mV, this output sinks current. When the differential input voltage is between CLKx and C\L\K\x\ < -100 mV, this  output sources (See Datasheet)", 13 Q8 (out) "Noninverted Clock Output. When the differential input voltage is between CLKx and C\L\K\x\ > 100 mV, this output sources current. When the differential input voltage is between CLKx and C\L\K\x\ < -100 mV,  this output sinks (See Datasheet)", 14 ~{Q7} (out) "Inverted Clock Output. When the differential input voltage is between CLKx and C\L\K\x\ > 100 mV, this output sinks current. When the differential input voltage is between CLKx and C\L\K\x\ < -100 mV, this  output sources (See Datasheet)", 15 Q7 (out) "Noninverted Clock Output. When the differential input voltage is between CLKx and C\L\K\x\ > 100 mV, this output sources current. When the differential input voltage is between CLKx and C\L\K\x\ < -100 mV,  this output sinks (See Datasheet)", 16 VDD (power) "Power Supply Input. This part can be operated from 2.375 V to 2.625 V.", 17 ~{Q6} (out) "Inverted Clock Output. When the differential input voltage is between CLKx and C\L\K\x\ > 100 mV, this output sinks current. When the differential input voltage is between CLKx and C\L\K\x\ < -100 mV, this  output sources (See Datasheet)", 18 Q6 (out) "Noninverted Clock Output. When the differential input voltage is between CLKx and C\L\K\x\ > 100 mV, this output sources current. When the differential input voltage is between CLKx and C\L\K\x\ < -100 mV,  this output sinks (See Datasheet)", 19 ~{Q5} (out) "Inverted Clock Output. When the differential input voltage is between CLKx and C\L\K\x\ > 100 mV, this output sinks current. When the differential input voltage is between CLKx and C\L\K\x\ < -100 mV, this  output sources (See Datasheet)", 20 Q5 (out) "Noninverted Clock Output. When the differential input voltage is between CLKx and C\L\K\x\ > 100 mV, this output sources current. When the differential input voltage is between CLKx and C\L\K\x\ < -100 mV,  this output sinks (See Datasheet)", 21 ~{Q4} (out) "Inverted Clock Output. When the differential input voltage is between CLKx and C\L\K\x\ > 100 mV, this output sinks current. When the differential input voltage is between CLKx and C\L\K\x\ < -100 mV, this  output sources (See Datasheet)", 22 Q4 (out) "Noninverted Clock Output. When the differential input voltage is between CLKx and C\L\K\x\ > 100 mV, this output sources current. When the differential input voltage is between CLKx and C\L\K\x\ < -100 mV,  this output sinks (See Datasheet)", 23 ~{Q3} (out) "Inverted Clock Output. When the differential input voltage is between CLKx and C\L\K\x\ > 100 mV, this output sinks current. When the differential input voltage is between CLKx and C\L\K\x\ < -100 mV, this  output sources (See Datasheet)", 24 Q3 (out) "Noninverted Clock Output. When the differential input voltage is between CLKx and C\L\K\x\ > 100 mV, this output sources current. When the differential input voltage is between CLKx and C\L\K\x\ < -100 mV,  this output sinks (See Datasheet)", 25 VSS (power) "Device Ground.", 26 ~{Q2} (out) "Inverted Clock Output. When the differential input voltage is between CLKx and C\L\K\x\ > 100 mV, this output sinks current. When the differential input voltage is between CLKx and C\L\K\x\ < -100 mV, this  output sources (See Datasheet)", 27 Q2 (out) "Noninverted Clock Output. When the differential input voltage is between CLKx and C\L\K\x\ > 100 mV, this output sources current. When the differential input voltage is between CLKx and C\L\K\x\ < -100 mV,  this output sinks (See Datasheet)", 28 ~{Q1} (out) "Inverted Clock Output. When the differential input voltage is between CLKx and C\L\K\x\ > 100 mV, this output sinks current. When the differential input voltage is between CLKx and C\L\K\x\ < -100 mV, this  output sources (See Datasheet)", 29 Q1 (out) "Noninverted Clock Output. When the differential input voltage is between CLKx and C\L\K\x\ > 100 mV, this output sources current. When the differential input voltage is between CLKx and C\L\K\x\ < -100 mV,  this output sinks (See Datasheet)", 30 ~{Q0} (out) "Inverted Clock Output. When the differential input voltage is between CLKx and C\L\K\x\ > 100 mV, this output sinks current. When the differential input voltage is between CLKx and C\L\K\x\ < -100 mV, this  output sources (See Datasheet)", 31 Q0 (out) "Noninverted Clock Output. When the differential input voltage is between CLKx and C\L\K\x\ > 100 mV, this output sources current. When the differential input voltage is between CLKx and C\L\K\x\ < -100 mV,  this output sinks (See Datasheet)", 32 VDD (power) "Power Supply Input. This part can be operated from 2.375 V to 2.625 V."

## ADN4670BSTZ-REEL7
designator U?
Programmable Low Voltage 1:10 LVDS Clock Driver, 2.625 V Supply, Industrial, 32-pin QFP (ST-32-2), Reel; Manufacturer: Analog Devices; PartNumber: ADN4670BSTZ-REEL7; # of Inputs: 2; # of Outputs: 10; Supply Voltage (V): 2.625; I/O Interface: Serial; Max f-out: 1.1 GHz; On-Chip VCO or DCO: No; PackageVersion: 01/2012; PackageReference: ST-32-2; PackageDescription: 32-Pin Low Profile Quad Flat Package, Body 7 x 7 mm, Pitch 0.8 mm; Supplier 1: Digi-Key; Supplier Part Number 1: ADN4670BSTZ-REEL7-ND; Supplier 2: Newark; Supplier Part Number 2: 27W3693; Supplier 3: Mouser; Supplier Part Number 3: 584-ADN4670BSTZ-R7; Output Logic: LVDS; Packing: Reel; Mounting Technology: Surface Mount; Code_JEDEC: MS-026-BBA; ComponentLink1Description: Manufacturer URL; ComponentLink1URL: http://www.analog.com/en/index.html; ComponentLink2Description: Datasheet; ComponentLink2URL: http://www.analog.com/static/imported-files/data_sheets/ADN4670.pdf; ComponentLink3Description: Package Specification; ComponentLink3URL: http://www.analog.com/static/imported-files/data_sheets/ADN4670.pdf; ComponentLink4Description: Product URL; ComponentLink4URL: http://www.analog.com/en/clock-and-timing/clock-generation-and-distribution/adn4670/products/product.html
footprint ADI-ST-32-2_N (QFP, 32-Leads, Body 7x7mm, Pitch 0.8mm, IPC Medium Density)
footprint ADI-ST-32-2_L (QFP, 32-Leads, Body 7x7mm, Pitch 0.8mm, IPC High Density)
footprint ADI-ST-32-2_M (QFP, 32-Leads, Body 7x7mm, Pitch 0.8mm, IPC Low Density)
pins: 1 CK (in) "Programming Clock. Programming data is clocked in on a low-to-high transition at this input. If left  open-circuit, it is pulled high by a 120 k ohm resistor", 2 SI (in) "Serial Data Input. This is the input for programming data. If left open-circuit, it is pulled low by a 120 k ohm  resistor.", 3 CLK0 (in) "Noninverting Differential Clock Input 0.", 4 ~{CLK0} (in) "Inverting Differential Clock Input 0.", 5 VBB (power) "Reference Voltage Output.", 6 CLK1 (in) "Noninverting Differential Clock Input 1.", 7 ~{CLK1} (in) "Inverting Differential Clock Input 1.", 8 EN (in) "Active-High Enable Input. When this input is high, programming is enabled. If left open-circuit, it is  pulled low by a 120 k ohm resistor.", 9 VSS (power) "Device Ground.", 10 ~{Q9} (out) "Inverted Clock Output. When the differential input voltage is between CLKx and C\L\K\x\ > 100 mV, this output sinks current. When the differential input voltage is between CLKx and C\L\K\x\ < -100 mV, this  output sources (See Datasheet)", 11 Q9 (out) "Noninverted Clock Output. When the differential input voltage is between CLKx and C\L\K\x\ > 100 mV, this output sources current. When the differential input voltage is between CLKx and C\L\K\x\ < -100 mV,  this output sinks (See Datasheet)", 12 ~{Q8} (out) "Inverted Clock Output. When the differential input voltage is between CLKx and C\L\K\x\ > 100 mV, this output sinks current. When the differential input voltage is between CLKx and C\L\K\x\ < -100 mV, this  output sources (See Datasheet)", 13 Q8 (out) "Noninverted Clock Output. When the differential input voltage is between CLKx and C\L\K\x\ > 100 mV, this output sources current. When the differential input voltage is between CLKx and C\L\K\x\ < -100 mV,  this output sinks (See Datasheet)", 14 ~{Q7} (out) "Inverted Clock Output. When the differential input voltage is between CLKx and C\L\K\x\ > 100 mV, this output sinks current. When the differential input voltage is between CLKx and C\L\K\x\ < -100 mV, this  output sources (See Datasheet)", 15 Q7 (out) "Noninverted Clock Output. When the differential input voltage is between CLKx and C\L\K\x\ > 100 mV, this output sources current. When the differential input voltage is between CLKx and C\L\K\x\ < -100 mV,  this output sinks (See Datasheet)", 16 VDD (power) "Power Supply Input. This part can be operated from 2.375 V to 2.625 V.", 17 ~{Q6} (out) "Inverted Clock Output. When the differential input voltage is between CLKx and C\L\K\x\ > 100 mV, this output sinks current. When the differential input voltage is between CLKx and C\L\K\x\ < -100 mV, this  output sources (See Datasheet)", 18 Q6 (out) "Noninverted Clock Output. When the differential input voltage is between CLKx and C\L\K\x\ > 100 mV, this output sources current. When the differential input voltage is between CLKx and C\L\K\x\ < -100 mV,  this output sinks (See Datasheet)", 19 ~{Q5} (out) "Inverted Clock Output. When the differential input voltage is between CLKx and C\L\K\x\ > 100 mV, this output sinks current. When the differential input voltage is between CLKx and C\L\K\x\ < -100 mV, this  output sources (See Datasheet)", 20 Q5 (out) "Noninverted Clock Output. When the differential input voltage is between CLKx and C\L\K\x\ > 100 mV, this output sources current. When the differential input voltage is between CLKx and C\L\K\x\ < -100 mV,  this output sinks (See Datasheet)", 21 ~{Q4} (out) "Inverted Clock Output. When the differential input voltage is between CLKx and C\L\K\x\ > 100 mV, this output sinks current. When the differential input voltage is between CLKx and C\L\K\x\ < -100 mV, this  output sources (See Datasheet)", 22 Q4 (out) "Noninverted Clock Output. When the differential input voltage is between CLKx and C\L\K\x\ > 100 mV, this output sources current. When the differential input voltage is between CLKx and C\L\K\x\ < -100 mV,  this output sinks (See Datasheet)", 23 ~{Q3} (out) "Inverted Clock Output. When the differential input voltage is between CLKx and C\L\K\x\ > 100 mV, this output sinks current. When the differential input voltage is between CLKx and C\L\K\x\ < -100 mV, this  output sources (See Datasheet)", 24 Q3 (out) "Noninverted Clock Output. When the differential input voltage is between CLKx and C\L\K\x\ > 100 mV, this output sources current. When the differential input voltage is between CLKx and C\L\K\x\ < -100 mV,  this output sinks (See Datasheet)", 25 VSS (power) "Device Ground.", 26 ~{Q2} (out) "Inverted Clock Output. When the differential input voltage is between CLKx and C\L\K\x\ > 100 mV, this output sinks current. When the differential input voltage is between CLKx and C\L\K\x\ < -100 mV, this  output sources (See Datasheet)", 27 Q2 (out) "Noninverted Clock Output. When the differential input voltage is between CLKx and C\L\K\x\ > 100 mV, this output sources current. When the differential input voltage is between CLKx and C\L\K\x\ < -100 mV,  this output sinks (See Datasheet)", 28 ~{Q1} (out) "Inverted Clock Output. When the differential input voltage is between CLKx and C\L\K\x\ > 100 mV, this output sinks current. When the differential input voltage is between CLKx and C\L\K\x\ < -100 mV, this  output sources (See Datasheet)", 29 Q1 (out) "Noninverted Clock Output. When the differential input voltage is between CLKx and C\L\K\x\ > 100 mV, this output sources current. When the differential input voltage is between CLKx and C\L\K\x\ < -100 mV,  this output sinks (See Datasheet)", 30 ~{Q0} (out) "Inverted Clock Output. When the differential input voltage is between CLKx and C\L\K\x\ > 100 mV, this output sinks current. When the differential input voltage is between CLKx and C\L\K\x\ < -100 mV, this  output sources (See Datasheet)", 31 Q0 (out) "Noninverted Clock Output. When the differential input voltage is between CLKx and C\L\K\x\ > 100 mV, this output sources current. When the differential input voltage is between CLKx and C\L\K\x\ < -100 mV,  this output sinks (See Datasheet)", 32 VDD (power) "Power Supply Input. This part can be operated from 2.375 V to 2.625 V."